# EAGLE library part AL3S10LG144 (library anlogic)
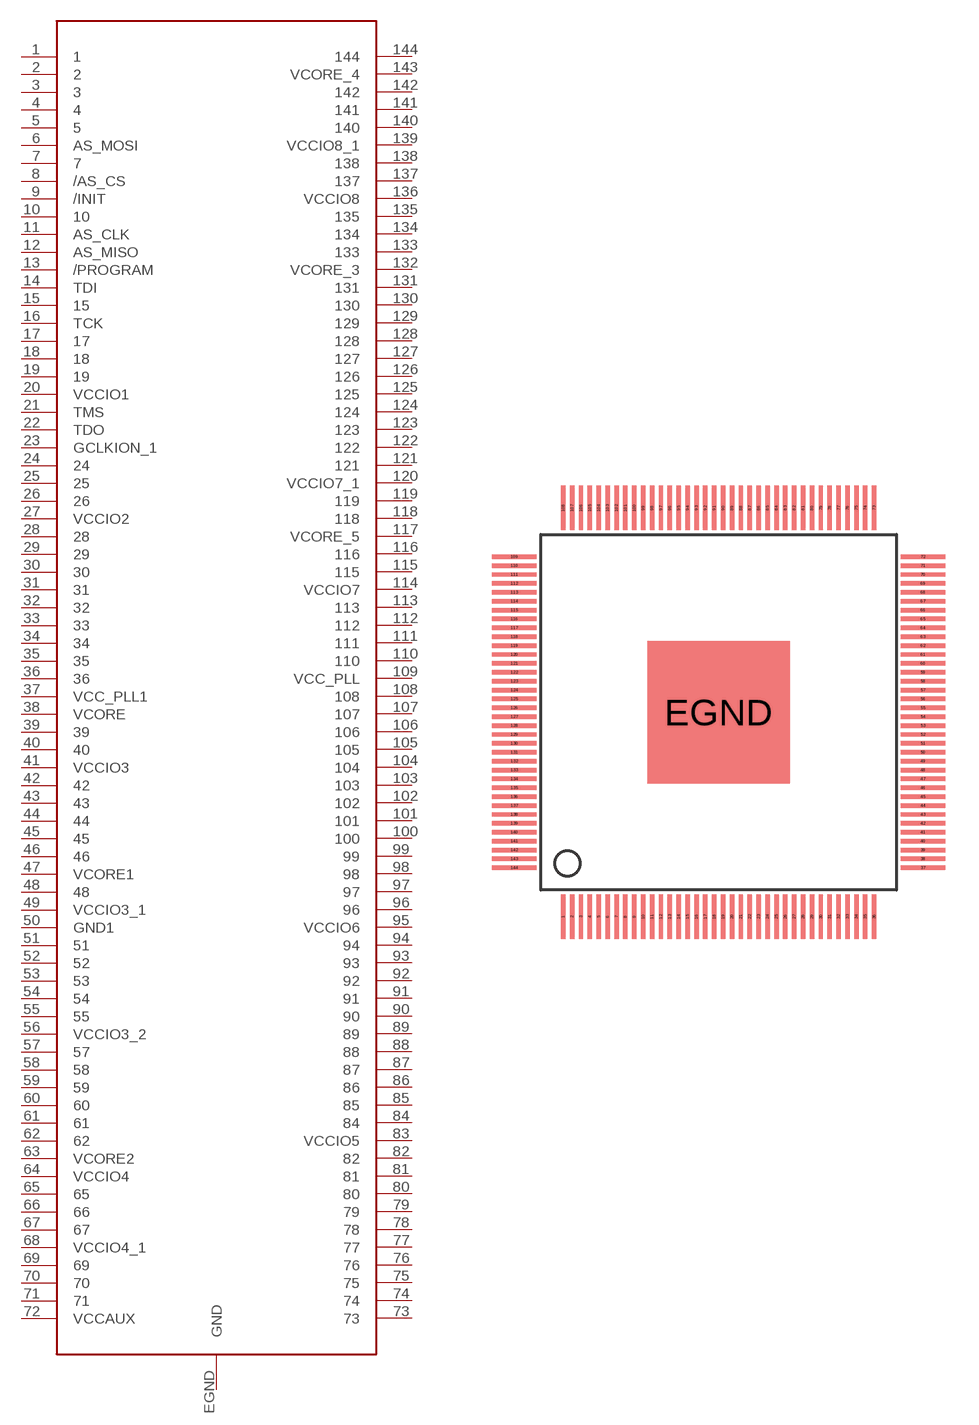
[diagram p0: symbol with the pads of HLQFP144NT16; footprint HLQFP144NT16]

Designator prefix -

## AL3S10LG144  [HLQFP144NT16]
1  1
2  2
3  3
4  4
5  5
6  AS_MOSI
7  7
8  /AS_CS
9  /INIT
10  10
11  AS_CLK
12  AS_MISO
13  /PROGRAM
14  TDI
15  15
16  TCK
17  17
18  18
19  19
20  VCCIO1
21  TMS
22  TDO
23  GCLKION_1
24  24
25  25
26  26
27  VCCIO2
28  28
29  29
30  30
31  31
32  32
33  33
34  34
35  35
36  36
37  VCC_PLL1
38  VCORE
39  39
40  40
41  VCCIO3
42  42
43  43
44  44
45  45
46  46
47  VCORE1
48  48
49  VCCIO3_1
50  GND1
51  51
52  52
53  53
54  54
55  55
56  VCCIO3_2
57  57
58  58
59  59
60  60
61  61
62  62
63  VCORE2
64  VCCIO4
65  65
66  66
67  67
68  VCCIO4_1
69  69
70  70
71  71
72  VCCAUX
73  73
74  74
75  75
76  76
77  77
78  78
79  79
80  80
81  81
82  82
83  VCCIO5
84  84
85  85
86  86
87  87
88  88
89  89
90  90
91  91
92  92
93  93
94  94
95  VCCIO6
96  96
97  97
98  98
99  99
100  100
101  101
102  102
103  103
104  104
105  105
106  106
107  107
108  108
109  VCC_PLL
110  110
111  111
112  112
113  113
114  VCCIO7
115  115
116  116
117  VCORE_5
118  118
119  119
120  VCCIO7_1
121  121
122  122
123  123
124  124
125  125
126  126
127  127
128  128
129  129
130  130
131  131
132  VCORE_3
133  133
134  134
135  135
136  VCCIO8
137  137
138  138
139  VCCIO8_1
140  140
141  141
142  142
143  VCORE_4
144  144
EGND  GND

## Footprint HLQFP144NT16 (pad centres in mm)
smd 0.2 x 2: 1 -7,-9.2; 2 -6.6,-9.2; 3 -6.2,-9.2; 4 -5.8,-9.2; 5 -5.4,-9.2; 6 -5,-9.2; 7 -4.6,-9.2; 8 -4.2,-9.2; 9 -3.8,-9.2; 10 -3.4,-9.2; 11 -3,-9.2; 12 -2.6,-9.2; 13 -2.2,-9.2; 14 -1.8,-9.2; 15 -1.4,-9.2; 16 -1,-9.2; 17 -0.6,-9.2; 18 -0.2,-9.2; 19 0.2,-9.2; 20 0.6,-9.2; 21 1,-9.2; 22 1.4,-9.2; 23 1.8,-9.2; 24 2.2,-9.2; 25 2.6,-9.2; 26 3,-9.2; 27 3.4,-9.2; 28 3.8,-9.2; 29 4.2,-9.2; 30 4.6,-9.2; 31 5,-9.2; 32 5.4,-9.2; 33 5.8,-9.2; 34 6.2,-9.2; 35 6.6,-9.2; 36 7,-9.2; 73 7,9.2; 74 6.6,9.2; 75 6.2,9.2; 76 5.8,9.2; 77 5.4,9.2; 78 5,9.2; 79 4.6,9.2; 80 4.2,9.2; 81 3.8,9.2; 82 3.4,9.2; 83 3,9.2; 84 2.6,9.2; 85 2.2,9.2; 86 1.8,9.2; 87 1.4,9.2; 88 1,9.2; 89 0.6,9.2; 90 0.2,9.2; 91 -0.2,9.2; 92 -0.6,9.2; 93 -1,9.2; 94 -1.4,9.2; 95 -1.8,9.2; 96 -2.2,9.2; 97 -2.6,9.2; 98 -3,9.2; 99 -3.4,9.2; 100 -3.8,9.2; 101 -4.2,9.2; 102 -4.6,9.2; 103 -5,9.2; 104 -5.4,9.2; 105 -5.8,9.2; 106 -6.2,9.2; 107 -6.6,9.2; 108 -7,9.2
smd 2 x 0.2: 37 9.2,-7; 38 9.2,-6.6; 39 9.2,-6.2; 40 9.2,-5.8; 41 9.2,-5.4; 42 9.2,-5; 43 9.2,-4.6; 44 9.2,-4.2; 45 9.2,-3.8; 46 9.2,-3.4; 47 9.2,-3; 48 9.2,-2.6; 49 9.2,-2.2; 50 9.2,-1.8; 51 9.2,-1.4; 52 9.2,-1; 53 9.2,-0.6; 54 9.2,-0.2; 55 9.2,0.2; 56 9.2,0.6; 57 9.2,1; 58 9.2,1.4; 59 9.2,1.8; 60 9.2,2.2; 61 9.2,2.6; 62 9.2,3; 63 9.2,3.4; 64 9.2,3.8; 65 9.2,4.2; 66 9.2,4.6; 67 9.2,5; 68 9.2,5.4; 69 9.2,5.8; 70 9.2,6.2; 71 9.2,6.6; 72 9.2,7; 109 -9.2,7; 110 -9.2,6.6; 111 -9.2,6.2; 112 -9.2,5.8; 113 -9.2,5.4; 114 -9.2,5; 115 -9.2,4.6; 116 -9.2,4.2; 117 -9.2,3.8; 118 -9.2,3.4; 119 -9.2,3; 120 -9.2,2.6; 121 -9.2,2.2; 122 -9.2,1.8; 123 -9.2,1.4; 124 -9.2,1; 125 -9.2,0.6; 126 -9.2,0.2; 127 -9.2,-0.2; 128 -9.2,-0.6; 129 -9.2,-1; 130 -9.2,-1.4; 131 -9.2,-1.8; 132 -9.2,-2.2; 133 -9.2,-2.6; 134 -9.2,-3; 135 -9.2,-3.4; 136 -9.2,-3.8; 137 -9.2,-4.2; 138 -9.2,-4.6; 139 -9.2,-5; 140 -9.2,-5.4; 141 -9.2,-5.8; 142 -9.2,-6.2; 143 -9.2,-6.6; 144 -9.2,-7
smd 6.4 x 6.4: EGND 0,0